# Altium schematic symbol library iv_btn_swtch.SchLib: 4 symbols
Pins are listed as number, name and electrical type; pins without a type are passive.

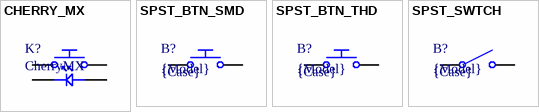
[diagram p0: symbols CHERRY_MX to SPST_SWTCH]

## CHERRY_MX
designator K?, comment CherryMX
Cherry MX keymodule; Type: {Type}
footprint SW_Cherry_MX (Cherry MX keyboard witch)
pins: 1, 2, 3, 4, 5 C, 6 A

## SPST_BTN_SMD
designator B?, comment Case: {Case}  (hidden comment: {Model})
Model: {Model}
footprint TS-6035-43-SMD (6x3.5mm SMD tact switch 4.3mm stem)
footprint TS-6565-43-SMD (6.5x6.5mm SMD tact switch 4.3mm stem)
footprint TS-6565-50-SMD (6.5x6.5mm SMD tact switch 5.0mm stem)
footprint TS-6565-70-SMD (6.5x6.5mm SMD tact switch 7.0mm stem)
pins: 1, 2

## SPST_BTN_THD
designator B?, comment Case: {Case}  (hidden comment: {Model})
Model: {Model}
pins: 1, 2

## SPST_SWTCH
designator B?, comment Case: {Case}  (hidden comment: {Model})
Model: {Model}
pins: 1, 2